# Altium footprint library Components - 25.04.20 - 12.49.PcbLib: 1 footprints
Each footprint in its own frame and in the unit in brackets; x right, y up, seen from the top. Pads: shape width x height; smd on the part's side, far side on the other; paste and mask are expansions set on the pad; w line width, h text height; cw(c..) or ccw(c..) is an arc to the next point about the centre after c.
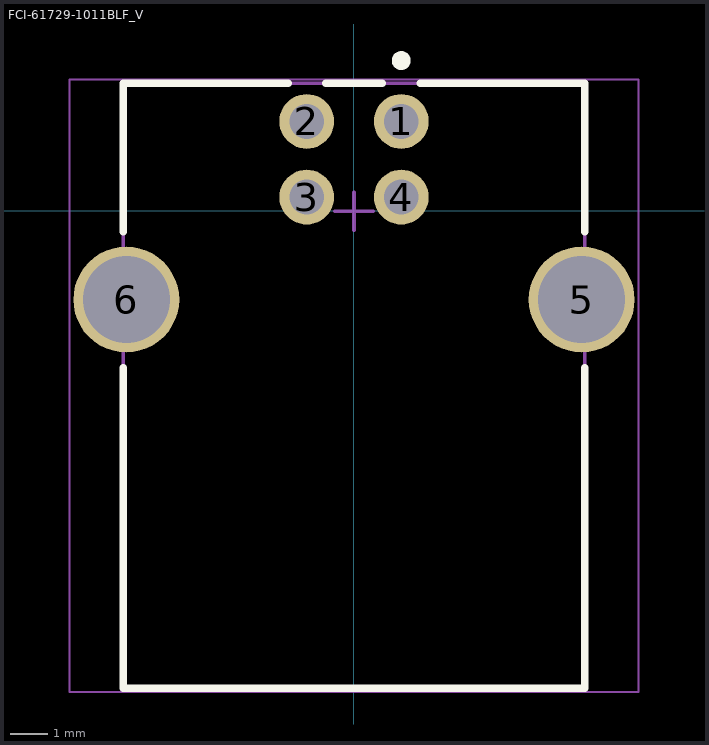
[diagram p0: the footprint, top view; thin cyan lines are the x and y axes]

## FCI-61729-1011BLF_V [mm] "THD, 4-Leads, Body 16x12.2mm"
height 11.5
pads (6):
  round 1.45 hole 0.92: 1(1.25,2.355) 2(-1.25,2.355) 3(-1.25,0.355) 4(1.25,0.355)
  round 2.8 hole 2.3: 5(6.02,-2.355) 6(-6.02,-2.355)
Top Overlay:
  circle w0.25: c1.25,3.965 r0.125
  lines w0.2: -6.1,-4.153 -6.1,-12.635 6.1,-12.635 6.1,-4.153 ; -6.1,-0.557 -6.1,3.365 -1.746,3.365 ; -0.75,3.365 0.75,3.365 ; 1.75,3.365 6.1,3.365 6.1,-0.557
Mechanical 13:
  lines w0.1: -6.1,-12.635 -6.1,3.365 6.1,3.365 6.1,-12.635 -6.1,-12.635
Mechanical 15:
  lines w0.05: -7.52,-12.735 7.52,-12.735 7.52,3.465 -7.52,3.465 -7.52,-12.735
  lines w0.1: -0.5,-0.02 0.5,-0.02 ; 0,-0.52 0,0.48
3D body: height 11.5, standoff 0, extent -6.099,-12.634 6.099,3.364